# Altium schematic symbol library Bel_rst_fuse_2Ahold.SchLib: 1 symbol
Pins are listed as number, name and electrical type; pins without a type are passive.

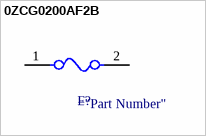
[diagram p0: symbol 0ZCG0200AF2B]

## 0ZCG0200AF2B
designator F?  (value not drawn)
Supplier 1: Mouser; Supplier Part Number 1: 530-0ZCG0200AF2B
footprint Bel_0ZCG_MFG
pins: 1, 2